# EAGLE library part AMC3330* (library HyTechDevices)
AMC3330 ±1-V input, precision voltage sensing reinforced isolated amplifier with integrated DC/DC Datasheet <https://www.ti.com/lit/gpn/amc3330>
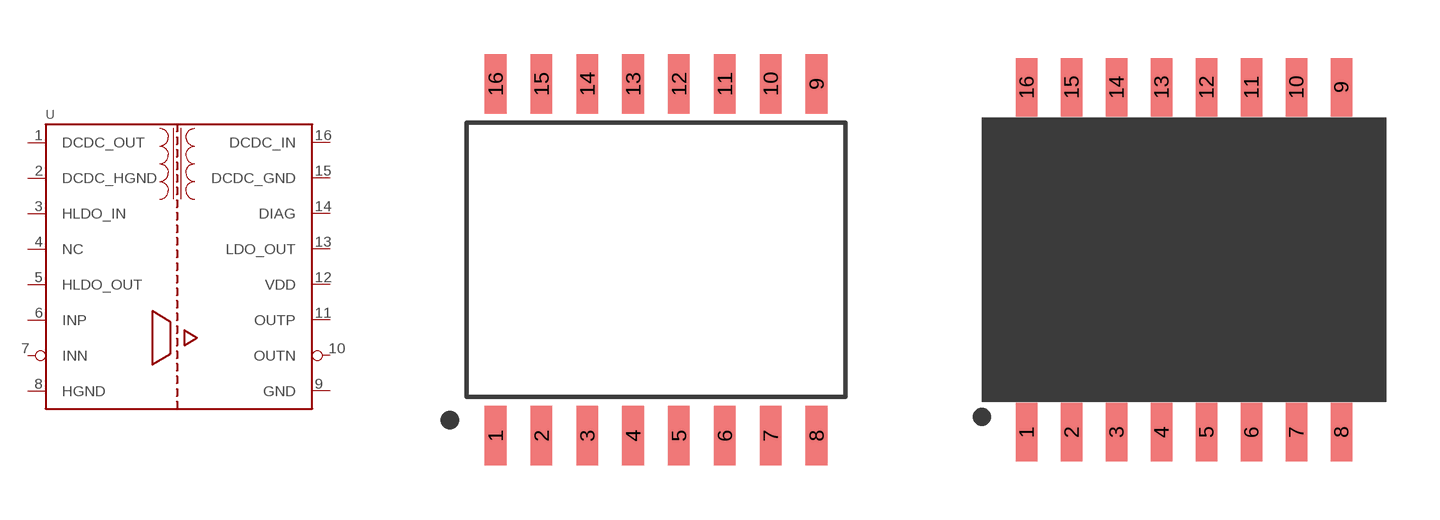
[diagram p65: symbol with the pads of SOIC-16W; footprints SOIC-16W, SOIC-16W-AIRGAP]

Designator prefix U

## AMC3330 (DKPN: 296-AMC3330DWERCT-ND; MANUFACTURER: Texas Instruments; MOPN: 595-AMC3330DWER; MPN: AMC3330DWER)  [SOIC-16W]
1  DCDC_OUT  pwr
2  DCDC_HGND  pwr
3  HLDO_IN  pwr
4  NC  nc
5  HLDO_OUT  pwr
6  INP
7  INN  in
8  HGND  pwr
9  GND  pwr
10  OUTN  out
11  OUTP
12  VDD  pwr
13  LDO_OUT  pwr
14  DIAG  oc
15  DCDC_GND  pwr
16  DCDC_IN  pwr

## AMC3330_AIRGAP (DKPN: 296-AMC3330DWERCT-ND; MANUFACTURER: Texas Instruments; MOPN: 595-AMC3330DWER; MPN: AMC3330DWER)  [SOIC-16W-AIRGAP]
Pads as for SOIC-16W

## Footprint SOIC-16W (pad centres in mm)
SOIC-16W Datasheet <https://www.analog.com/media/en/package-pcb-resources/package/pkg_pdf/ltc-legacy-soic/so_16_05-08-1620.pdf>
smd 0.6 x 1.65: 1 -4.445,-4.875; 2 -3.175,-4.875; 3 -1.905,-4.875; 4 -0.635,-4.875; 5 0.635,-4.875; 6 1.905,-4.875; 7 3.175,-4.875; 8 4.445,-4.875; 9 4.445,4.875; 10 3.175,4.875; 11 1.905,4.875; 12 0.635,4.875; 13 -0.635,4.875; 14 -1.905,4.875; 15 -3.175,4.875; 16 -4.445,4.875

## Footprint SOIC-16W-AIRGAP (pad centres in mm)
SOIC-16W-AIRGAP Datasheet <https://www.analog.com/media/en/package-pcb-resources/package/pkg_pdf/ltc-legacy-soic/so_16_05-08-1620.pdf>
smd 0.6 x 1.65: 1 -4.445,-4.875; 2 -3.175,-4.875; 3 -1.905,-4.875; 4 -0.635,-4.875; 5 0.635,-4.875; 6 1.905,-4.875; 7 3.175,-4.875; 8 4.445,-4.875; 9 4.445,4.875; 10 3.175,4.875; 11 1.905,4.875; 12 0.635,4.875; 13 -0.635,4.875; 14 -1.905,4.875; 15 -3.175,4.875; 16 -4.445,4.875